# EAGLE library part NE555PSR (library ruark2)
555 Type, Timer/Oscillator (Single) IC 100kHz 8-SO
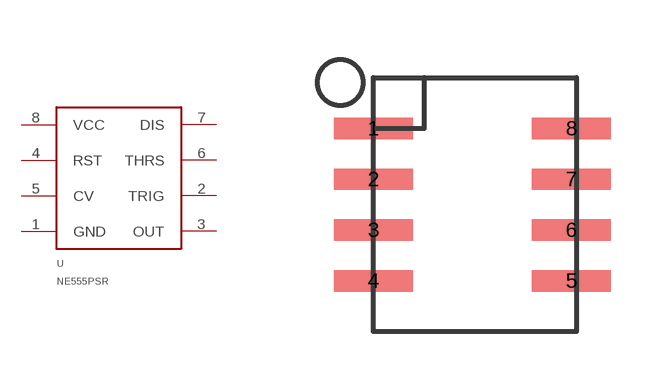
[diagram p170: symbol with the pads of SOIC8; footprint SOIC8]

Designator prefix U

## NE555PSR (PARTNO: 296-6502-1-ND)  [SOIC8]
1  GND
2  TRIG
3  OUT
4  RST
5  CV
6  THRS
7  DIS
8  VCC

## Footprint SOIC8 (pad centres in mm)
smd 1.981 x 0.533: 1 -2.477,1.905; 2 -2.477,0.635; 3 -2.477,-0.635; 4 -2.477,-1.905; 5 2.477,-1.905; 6 2.477,-0.635; 7 2.477,0.635; 8 2.477,1.905